# EAGLE library part CC3200R1M2RGCR (library boydcircuits)
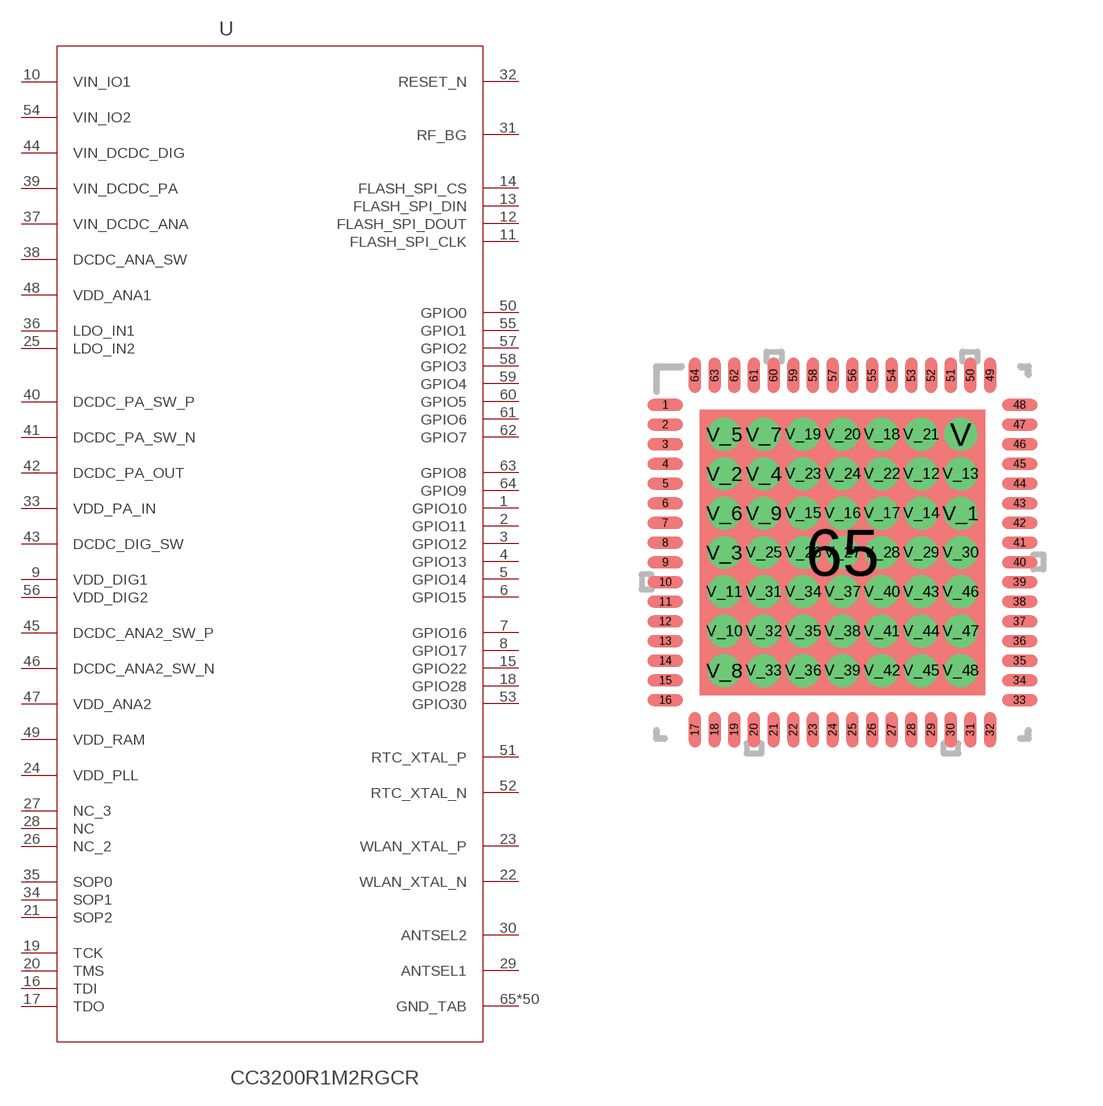
[diagram p2: symbol with the pads of RGC0064A; footprint RGC0064A]

Designator prefix U

## CC3200R1M2RGCR (ALTERNATEPARTNUMBER: CC3200R1M2RGC; COMPTYPE: IC; MANUFACTURER: Texas Instruments; MOUNTTYPE: SMT; PACKAGEREFERENCE: RGC0064A; PARTNUMBER: CC3200R1M2RGCR; PIN_COUNT: 65; REFDES: RefDes; ROHS: Y; TYPE: TYPE; VALUE: Value)  [RGC0064A]
1  GPIO10
2  GPIO11
3  GPIO12
4  GPIO13
5  GPIO14
6  GPIO15
7  GPIO16
8  GPIO17
9  VDD_DIG1  pwr
10  VIN_IO1  pwr
11  FLASH_SPI_CLK  out
12  FLASH_SPI_DOUT  out
13  FLASH_SPI_DIN  in
14  FLASH_SPI_CS  out
15  GPIO22
16  TDI
17  TDO
18  GPIO28
19  TCK
20  TMS
21  SOP2  out
22  WLAN_XTAL_N  pas
23  WLAN_XTAL_P  pas
24  VDD_PLL  pwr
25  LDO_IN2  pwr
26  NC_2  pas
27  NC_3  pas
28  NC  pas
29  ANTSEL1  out
30  ANTSEL2  out
31  RF_BG  pas
32  RESET_N  in
33  VDD_PA_IN  pwr
34  SOP1  in
35  SOP0  in
36  LDO_IN1  pwr
37  VIN_DCDC_ANA  pwr
38  DCDC_ANA_SW  pwr
39  VIN_DCDC_PA  pwr
40  DCDC_PA_SW_P  pwr
41  DCDC_PA_SW_N  pwr
42  DCDC_PA_OUT  pwr
43  DCDC_DIG_SW  pwr
44  VIN_DCDC_DIG  pwr
45  DCDC_ANA2_SW_P
46  DCDC_ANA2_SW_N
47  VDD_ANA2  pwr
48  VDD_ANA1  pwr
49  VDD_RAM  pwr
50  GPIO0
51  RTC_XTAL_P  pas
52  RTC_XTAL_N  pas
53  GPIO30
54  VIN_IO2  pwr
55  GPIO1
56  VDD_DIG2  pwr
57  GPIO2
58  GPIO3
59  GPIO4
60  GPIO5
61  GPIO6
62  GPIO7
63  GPIO8
64  GPIO9
65  GND_TAB  pwr
V  GND_TAB  pwr
V_1  GND_TAB  pwr
V_2  GND_TAB  pwr
V_3  GND_TAB  pwr
V_4  GND_TAB  pwr
V_5  GND_TAB  pwr
V_6  GND_TAB  pwr
V_7  GND_TAB  pwr
V_8  GND_TAB  pwr
V_9  GND_TAB  pwr
V_10  GND_TAB  pwr
V_11  GND_TAB  pwr
V_12  GND_TAB  pwr
V_13  GND_TAB  pwr
V_14  GND_TAB  pwr
V_15  GND_TAB  pwr
V_16  GND_TAB  pwr
V_17  GND_TAB  pwr
V_18  GND_TAB  pwr
V_19  GND_TAB  pwr
V_20  GND_TAB  pwr
V_21  GND_TAB  pwr
V_22  GND_TAB  pwr
V_23  GND_TAB  pwr
V_24  GND_TAB  pwr
V_25  GND_TAB  pwr
V_26  GND_TAB  pwr
V_27  GND_TAB  pwr
V_28  GND_TAB  pwr
V_29  GND_TAB  pwr
V_30  GND_TAB  pwr
V_31  GND_TAB  pwr
V_32  GND_TAB  pwr
V_33  GND_TAB  pwr
V_34  GND_TAB  pwr
V_35  GND_TAB  pwr
V_36  GND_TAB  pwr
V_37  GND_TAB  pwr
V_38  GND_TAB  pwr
V_39  GND_TAB  pwr
V_40  GND_TAB  pwr
V_41  GND_TAB  pwr
V_42  GND_TAB  pwr
V_43  GND_TAB  pwr
V_44  GND_TAB  pwr
V_45  GND_TAB  pwr
V_46  GND_TAB  pwr
V_47  GND_TAB  pwr
V_48  GND_TAB  pwr

## Footprint RGC0064A (pad centres in mm)
smd 0.9 x 0.3: 1 -4.5,3.75; 2 -4.5,3.25; 3 -4.5,2.75; 4 -4.5,2.25; 5 -4.5,1.75; 6 -4.5,1.25; 7 -4.5,0.75; 8 -4.5,0.25; 9 -4.5,-0.25; 10 -4.5,-0.75; 11 -4.5,-1.25; 12 -4.5,-1.75; 13 -4.5,-2.25; 14 -4.5,-2.75; 15 -4.5,-3.25; 16 -4.5,-3.75; 33 4.5,-3.75; 34 4.5,-3.25; 35 4.5,-2.75; 36 4.5,-2.25; 37 4.5,-1.75; 38 4.5,-1.25; 39 4.5,-0.75; 40 4.5,-0.25; 41 4.5,0.25; 42 4.5,0.75; 43 4.5,1.25; 44 4.5,1.75; 45 4.5,2.25; 46 4.5,2.75; 47 4.5,3.25; 48 4.5,3.75
smd 0.3 x 0.9: 17 -3.75,-4.5; 18 -3.25,-4.5; 19 -2.75,-4.5; 20 -2.25,-4.5; 21 -1.75,-4.5; 22 -1.25,-4.5; 23 -0.75,-4.5; 24 -0.25,-4.5; 25 0.25,-4.5; 26 0.75,-4.5; 27 1.25,-4.5; 28 1.75,-4.5; 29 2.25,-4.5; 30 2.75,-4.5; 31 3.25,-4.5; 32 3.75,-4.5; 49 3.75,4.5; 50 3.25,4.5; 51 2.75,4.5; 52 2.25,4.5; 53 1.75,4.5; 54 1.25,4.5; 55 0.75,4.5; 56 0.25,4.5; 57 -0.25,4.5; 58 -0.75,4.5; 59 -1.25,4.5; 60 -1.75,4.5; 61 -2.25,4.5; 62 -2.75,4.5; 63 -3.25,4.5; 64 -3.75,4.5
smd 7.25 x 7.25: 65 0,0
drill 0.33: V 3,3; V_1 3,1; V_2 -3,2; V_3 -3,0; V_4 -2,2; V_5 -3,3; V_6 -3,1; V_7 -2,3; V_8 -3,-3; V_9 -2,1; V_10 -3,-2; V_11 -3,-1; V_12 2,2; V_13 3,2; V_14 2,1; V_15 -1,1; V_16 0,1; V_17 1,1; V_18 1,3; V_19 -1,3; V_20 0,3; V_21 2,3; V_22 1,2; V_23 -1,2; V_24 0,2; V_25 -2,0; V_26 -1,0; V_27 0,0; V_28 1,0; V_29 2,0; V_30 3,0; V_31 -2,-1; V_32 -2,-2; V_33 -2,-3; V_34 -1,-1; V_35 -1,-2; V_36 -1,-3; V_37 0,-1; V_38 0,-2; V_39 0,-3; V_40 1,-1; V_41 1,-2; V_42 1,-3; V_43 2,-1; V_44 2,-2; V_45 2,-3; V_46 3,-1; V_47 3,-2; V_48 3,-3